# EAGLE library part AL5801 (library PP_DigitalIC)
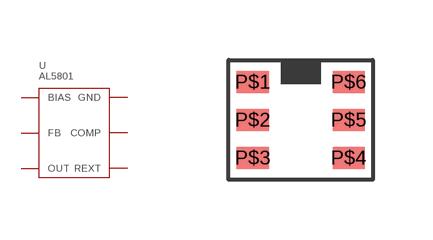
[diagram p30: symbol with the pads of AL5801_SOT-26-6; footprint AL5801_SOT-26-6]

Designator prefix U

## AL5801  [AL5801_SOT-26-6]
P$1  BIAS
P$2  FB
P$3  OUT
P$4  REXT
P$5  COMP
P$6  GND

## Footprint AL5801_SOT-26-6 (pad centres in mm)
smd 0.8 x 0.55: P$1 -1.2,0.95; P$2 -1.2,0; P$3 -1.2,-0.95; P$4 1.2,-0.95; P$5 1.2,0; P$6 1.2,0.95